# Altium schematic symbol library SCH - POWER - LINEAR VREG - TI TPS73601-EP_DCQ_6.SchLib: 1 symbol
Pins are listed as number, name and electrical type; pins without a type are passive.

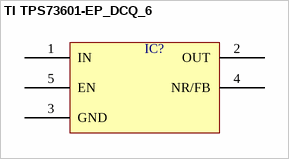
[diagram p0: symbol TI TPS73601-EP_DCQ_6]

## TI TPS73601-EP_DCQ_6
designator IC?  (value not drawn)
pins: 1 IN, 2 OUT, 3 GND, 4 NR/FB, 5 EN